# EAGLE library part ADA4004-2 (library opamps)
ADA4004-2: Dual opamp (Analog Devices) ±15V, ±10mA, 165nA bias 300µV offset, 12MHz UGF, 1.8nV/rt(Hz) noise
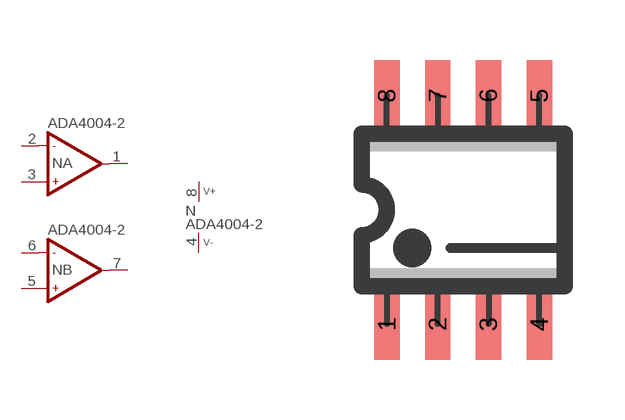
[diagram p279: symbol with the pads of SO08; footprint SO08]

Designator prefix N; gates A=OP-NAME B=OP-NAME P=V+-

## ADA4004-2  [SO08]
1  A:OUT  out
2  A:IN-  in
3  A:IN+  in
4  P:V-  pwr
5  B:IN+  in
6  B:IN-  in
7  B:OUT  out
8  P:V+  pwr

## ADA4004-2S  [SO08]
Pads as for SO08

## Footprint SO08 (pad centres in mm)
SO-8, SMD SOIC IC package, 8 pins
smd 0.635 x 1.778: 1 -1.905,-2.857; 2 -0.635,-2.857; 3 0.635,-2.857; 4 1.905,-2.857; 5 1.905,2.857; 6 0.635,2.857; 7 -0.635,2.857; 8 -1.905,2.857